# Altium schematic symbol library TC4.SchLib: 1 symbol
Pins are listed as number, name and electrical type; pins without a type are passive.

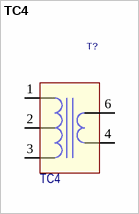
[diagram p0: symbol TC4]

## TC4
designator T?
Minicircuits TC4 Series RF Transformer; Потребление, Вт: 0,0; Назначение: TC4 Series RF Transformer; ComponentLink1Description: DataSheet; ComponentLink1URL: https://www.minicircuits.com/pdfs/ADT1-6T.pdf; Наименование: TC4
footprint TC4 (TC4 Series Transformer)
pins: 1, 2, 3, 4, 6